# EAGLE library part LSM303D_LSM303D (library Cosmic Pi V2)
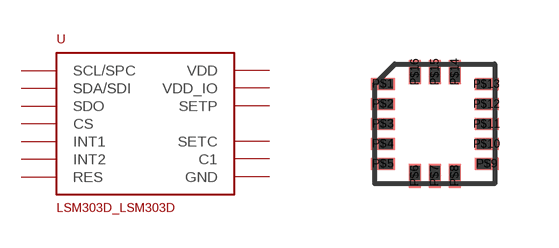
[diagram p2: symbol with the pads of LSM303D_LGA16L; footprint LSM303D_LGA16L]

Designator prefix U

## LSM303D_LSM303D  [LSM303D_LGA16L]
P$1  VDD_IO  pwr
P$2  SETC
P$3  SETP
P$4  SCL/SPC
P$5  GND  pwr
P$6  SDA/SDI
P$7  SDO
P$8  CS
P$9  INT2
P$10  RES
P$11  INT1
P$12  GND  pwr
P$13  GND  pwr
P$14  VDD  pwr
P$15  C1
P$16  GND  pwr

## Footprint LSM303D_LGA16L (pad centres in mm)
smd 0.6 x 0.3: P$1 -1.3,1; P$2 -1.3,0.5; P$3 -1.3,0; P$4 -1.3,-0.5; P$5 -1.3,-1; P$9 1.3,-1; P$10 1.3,-0.5; P$11 1.3,0; P$12 1.3,0.5; P$13 1.3,1
smd 0.3 x 0.6: P$6 -0.5,-1.3; P$7 0,-1.3; P$8 0.5,-1.3; P$14 0.5,1.3; P$15 0,1.3; P$16 -0.5,1.3